# EAGLE library part SNSR_TEMP_MAX31865ATP+T (library !GPLIB_ACTIVE)
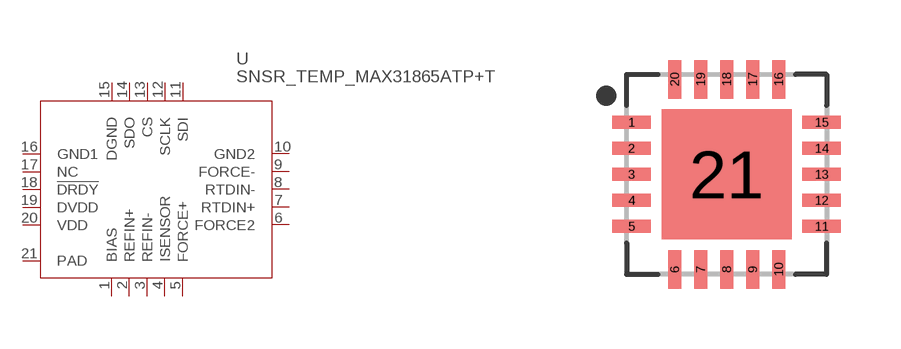
[diagram p2: symbol with the pads of MAX31865ATP+T; footprint MAX31865ATP+T]

Designator prefix U

## SNSR_TEMP_MAX31865ATP+T  [MAX31865ATP+T]
1  BIAS
2  REFIN+
3  REFIN-
4  ISENSOR
5  FORCE+
6  FORCE2
7  RTDIN+
8  RTDIN-
9  FORCE-
10  GND2
11  SDI
12  SCLK
13  CS
14  SDO
15  DGND
16  GND1
17  NC
18  !DRDY
19  DVDD
20  VDD
21  PAD

## Footprint MAX31865ATP+T (pad centres in mm)
20-QFN, 0.65 mm pitch, 5.00 X 5.00 X 0.75 mm body, 3.25 X 3.25 mm thermal pad 20-pin QFN package with 0.65 mm pitch with body size 5.00 X 5.00 X 0.75 mm and thermal pad size 3.25 X 3.25 mm
smd 0.964 x 0.324: 1 -2.376,1.3; 2 -2.376,0.65; 3 -2.376,0; 4 -2.376,-0.65; 5 -2.376,-1.3; 11 2.376,-1.3; 12 2.376,-0.65; 13 2.376,0; 14 2.376,0.65; 15 2.376,1.3
smd 0.324 x 0.964: 6 -1.3,-2.376; 7 -0.65,-2.376; 8 0,-2.376; 9 0.65,-2.376; 10 1.3,-2.376; 16 1.3,2.376; 17 0.65,2.376; 18 0,2.376; 19 -0.65,2.376; 20 -1.3,2.376
smd 3.25 x 3.25: 21 0,0